# EAGLE library part SCREW_TERMINAL_X8 (library screw_terminals)
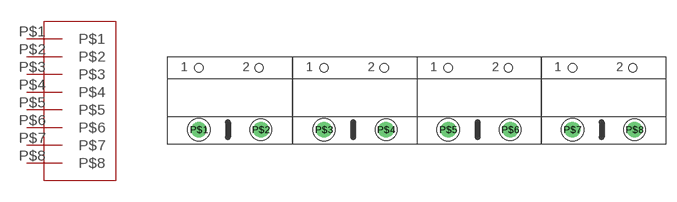
[diagram p1: symbol with the pads of SCREW_TERMINAL_X8; footprint SCREW_TERMINAL_X8]

Designator prefix -

## SCREW_TERMINAL_X8  [SCREW_TERMINAL_X8]
P$1  P$1
P$2  P$2
P$3  P$3
P$4  P$4
P$5  P$5
P$6  P$6
P$7  P$7
P$8  P$8

## Footprint SCREW_TERMINAL_X8 (pad centres in mm)
drill 1 pad 2.184: P$1 -3.37,-3.08; P$2 5.13,-3.08; P$3 13.775,-3.08; P$4 22.275,-3.08; P$5 30.793,-3.08; P$6 39.293,-3.08; P$7 47.811,-3.08; P$8 56.311,-3.08